# EAGLE library part YMZ294 (library iteclab)
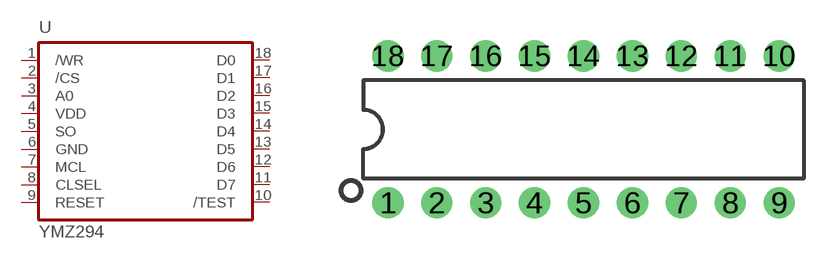
[diagram p6: symbol with the pads of DIP18; footprint DIP18]

Designator prefix -

## YMZ294  [DIP18]
1  /WR
2  /CS
3  A0
4  VDD  pwr
5  SO  out
6  GND  pwr
7  MCL  in
8  CLSEL  in
9  RESET  in
10  /TEST  in
11  D7  in
12  D6  in
13  D5  in
14  D4  in
15  D3  in
16  D2  in
17  D1  in
18  D0  in

## Footprint DIP18 (pad centres in mm)
Dual In Line package type P
drill 0.813 pad 1.626: 1 -10.16,-3.81; 2 -7.62,-3.81; 3 -5.08,-3.81; 4 -2.54,-3.81; 5 0,-3.81; 6 2.54,-3.81; 7 5.08,-3.81; 8 7.62,-3.81; 9 10.16,-3.81; 10 10.16,3.81; 11 7.62,3.81; 12 5.08,3.81; 13 2.54,3.81; 14 0,3.81; 15 -2.54,3.81; 16 -5.08,3.81; 17 -7.62,3.81; 18 -10.16,3.81